# Altium integrated library 08055A6R0JAT2A.IntLib: 1 symbol
Pins are listed as number, name and electrical type; pins without a type are passive.

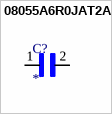
[diagram p0: symbol 08055A6R0JAT2A]

## 08055A6R0JAT2A
designator C?
Cap Ceramic 6pF 50V C0G 5% SMD 0805 125???ÂÂŽ T/R; MP: 08055A6R0JAT2A; Package: None; Price: None; Value: *; Availability: Unavailable
footprint CAPC2012X94N
pins: 1, 2